# Altium schematic symbol library Connectors.SchLib: 1 symbol
Pins are listed as number, name and electrical type; pins without a type are passive.

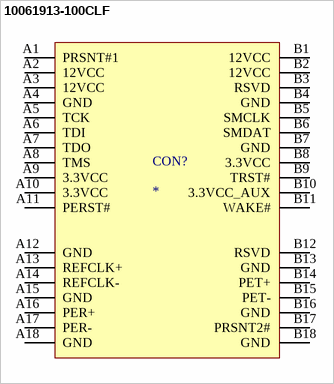
[diagram p0: symbol 10061913-100CLF]

## 10061913-100CLF
designator CON?
CONN PCI EXPRESS 36POS SMD; Digikey Part Number: 609-2882-ND
footprint 10061913-100CLF (CONN PCI EXPRESS 36POS SMD)
pins: A1 PRSNT#1, A2 12VCC, A3 12VCC, A4 GND, A5 TCK, A6 TDI, A7 TDO, A8 TMS, A9 3.3VCC, A10 3.3VCC, A11 PERST#, A12 GND, A13 REFCLK+, A14 REFCLK-, A15 GND, A16 PER+, A17 PER-, A18 GND, B1 12VCC, B2 12VCC, B3 RSVD, B4 GND, B5 SMCLK, B6 SMDAT, B7 GND, B8 3.3VCC, B9 TRST#, B10 3.3VCC_AUX, B11 WAKE#, B12 RSVD, B13 GND, B14 PET+, B15 PET-, B16 GND, B17 PRSNT2#, B18 GND